# Altium footprint library DF40HC(3.0)-100DS-0.4V.PcbLib: 1 footprints
Each footprint in its own frame and in the unit in brackets; x right, y up, seen from the top. Pads: shape width x height; smd on the part's side, far side on the other; paste and mask are expansions set on the pad; w line width, h text height; cw(c..) or ccw(c..) is an arc to the next point about the centre after c.
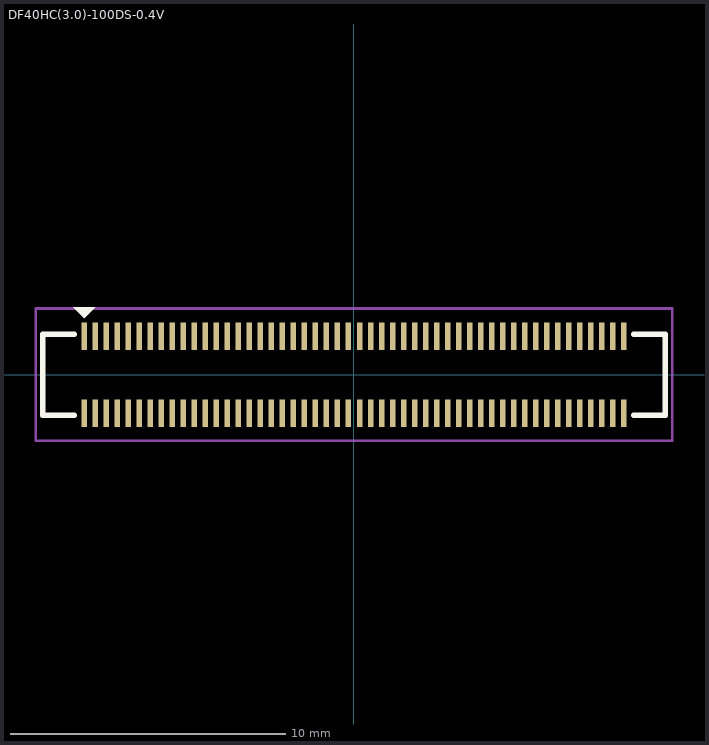
[diagram p0: the footprint, top view; thin cyan lines are the x and y axes]

## DF40HC(3.0)-100DS-0.4V [mm]
pads (100):
  rect 0.2x1 smd: 1(-9.8,1.4) 2(-9.8,-1.4) 3(-9.4,1.4) 4(-9.4,-1.4) 5(-9,1.4) 6(-9,-1.4) 7(-8.6,1.4) 8(-8.6,-1.4) 9(-8.2,1.4) 10(-8.2,-1.4) 11(-7.8,1.4) 12(-7.8,-1.4) 13(-7.4,1.4) 14(-7.4,-1.4) 15(-7,1.4) 16(-7,-1.4) 17(-6.6,1.4) 18(-6.6,-1.4) 19(-6.2,1.4) 20(-6.2,-1.4) 21(-5.8,1.4) 22(-5.8,-1.4) 23(-5.4,1.4) 24(-5.4,-1.4) 25(-5,1.4) 26(-5,-1.4) 27(-4.6,1.4) 28(-4.6,-1.4) 29(-4.2,1.4) 30(-4.2,-1.4) 31(-3.8,1.4) 32(-3.8,-1.4) 33(-3.4,1.4) 34(-3.4,-1.4) 35(-3,1.4) 36(-3,-1.4) 37(-2.6,1.4) 38(-2.6,-1.4) 39(-2.2,1.4) 40(-2.2,-1.4) 41(-1.8,1.4) 42(-1.8,-1.4) 43(-1.4,1.4) 44(-1.4,-1.4) 45(-1,1.4) 46(-1,-1.4) 47(-0.6,1.4) 48(-0.6,-1.4) 49(-0.2,1.4) 50(-0.2,-1.4) 51(0.2,1.4) 52(0.2,-1.4) 53(0.6,1.4) 54(0.6,-1.4) 55(1,1.4) 56(1,-1.4) 57(1.4,1.4) 58(1.4,-1.4) 59(1.8,1.4) 60(1.8,-1.4) 61(2.2,1.4) 62(2.2,-1.4) 63(2.6,1.4) 64(2.6,-1.4) 65(3,1.4) 66(3,-1.4) 67(3.4,1.4) 68(3.4,-1.4) 69(3.8,1.4) 70(3.8,-1.4) 71(4.2,1.4) 72(4.2,-1.4) 73(4.6,1.4) 74(4.6,-1.4) 75(5,1.4) 76(5,-1.4) 77(5.4,1.4) 78(5.4,-1.4) 79(5.8,1.4) 80(5.8,-1.4) 81(6.2,1.4) 82(6.2,-1.4) 83(6.6,1.4) 84(6.6,-1.4) 85(7,1.4) 86(7,-1.4) 87(7.4,1.4) 88(7.4,-1.4) 89(7.8,1.4) 90(7.8,-1.4) 91(8.2,1.4) 92(8.2,-1.4) 93(8.6,1.4) 94(8.6,-1.4) 95(9,1.4) 96(9,-1.4) 97(9.4,1.4) 98(9.4,-1.4) 99(9.8,1.4) 100(9.8,-1.4)
Top Overlay:
  region: -10.2,2.45 -9.4,2.45 -9.8,2.05
  lines w0.2: -10.15,-1.475 -11.3,-1.475 ; -10.15,1.475 -11.3,1.475 -11.3,-1.475 ; 10.15,-1.475 11.3,-1.475 ; 10.15,1.475 11.3,1.475 11.3,-1.475 ; -11.3,-1.475 -11.3,-1.475 ; 11.3,-1.475 11.3,-1.475
Top Courtyard:
  lines w0.1: -11.55,-2.4 11.55,-2.4 11.55,2.4 -11.55,2.4 -11.55,-2.4
3D body "DF40HC(3.0)-100DS-0.4V.stp": height 2.9, standoff 0, extent -11.3,-1.69 11.3,1.69